# Altium schematic symbol library CSTNE19M2VH3L000R0.SchLib: 1 symbol
Pins are listed as number, name and electrical type; pins without a type are passive.

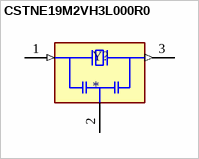
[diagram p0: symbol CSTNE19M2VH3L000R0]

## CSTNE19M2VH3L000R0
designator Y?
19.2MHz Ceramic Resonator Built in Capacitor 15pF Â±0.11% -40Â°C ~ 85Â°C Surface Mount; MF: Murata Electronics; MP: CSTNE19M2VH3L000R0; Digi-Key_Part_Number: 490-18268-2-ND; Purchase-URL: https://pricing.snapeda.com/search/part/CSTNE19M2VH3L000R0/?ref=eda; Check_prices: https://www.snapeda.com/parts/CSTNE19M2VH3L000R0/Murata/view-part/?ref=eda; Value: *; SnapEDA_Link: https://www.snapeda.com/parts/CSTNE19M2VH3L000R0/Murata/view-part/?ref=snap; Package: SMD-3 Murata
footprint OSC_CSTNE19M2VH3L000R0
pins: 1 IN (in), 2 GND (power), 3 OUT (out)